# Altium schematic symbol library NOUMANPCBLIB.SchLib: 638 symbols (part 6 of 6)
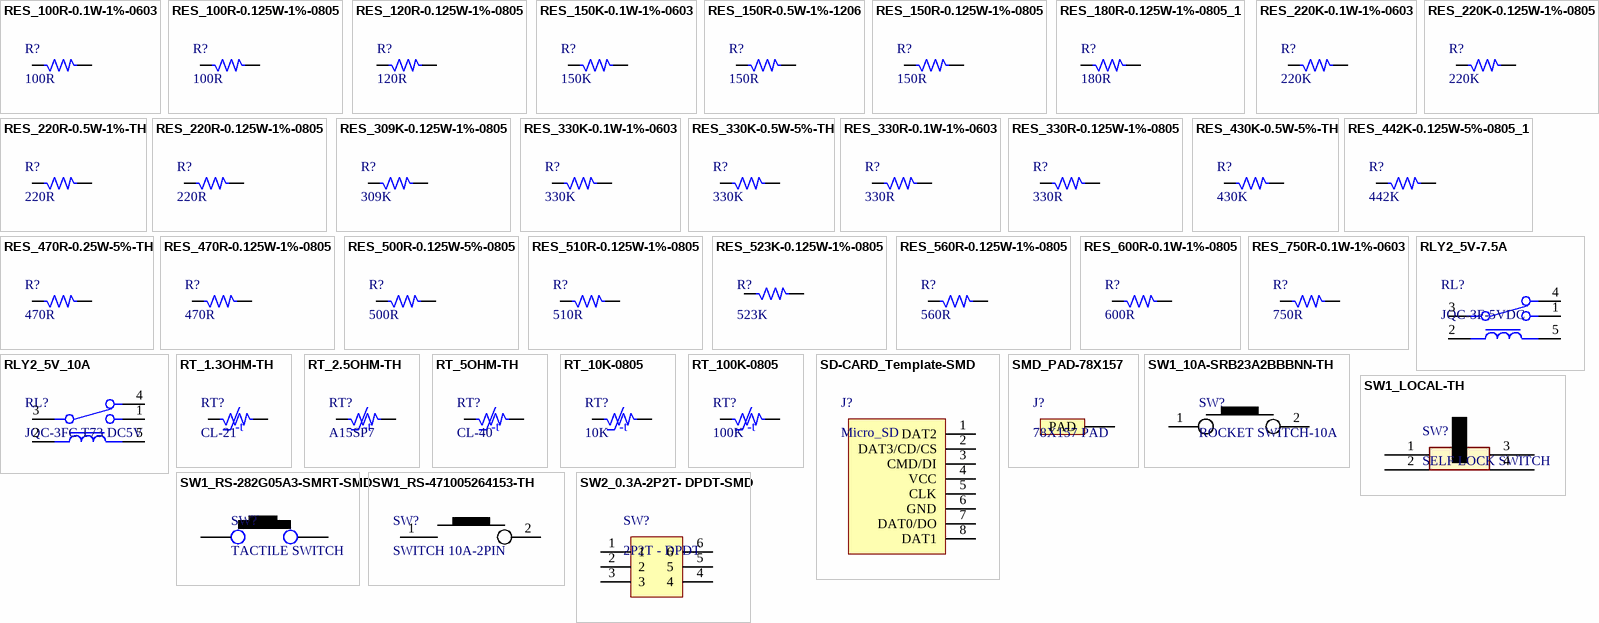
[diagram p23: symbols RES_100R-0.1W-1%-0603 to SW2_0.3A-2P2T- DPDT-SMD]

## RES_442K-0.125W-5%-0805_1
designator R?, comment 442K
442K Ohms ±5% 0.125W, 1/8W Chip Resistor 0805 (2012 Metric) Moisture Resistant Thick Film; Manufacturer: Stackpole Electronics; Manufacturer Part Number: RC0805JR-0730RL; Alternate Part Number-1: NA; Case/Package: 0805; Supplier-1: SIRICOM; Supplier Part Number-1: WR08X30R0FTL
footprint RES_0805
pins: 1, 2

## RES_470R-0.25W-5%-TH
designator R?, comment 470R
470 Ohms ±5% 0.25W, 1/4W Through Hole Resistor Axial Flame Retardant Coating, Safety Carbon Film; Manufacturer: Vishay Dale Thin Film; Manufacturer Part Number: CF14JT470R; Alternate Part Number-1: NA; Case/Package: TH; Supplier-1: SP ROAD; Supplier Part Number-1: CF14JT470R
footprint RES_319_TH
pins: 1, 2

## RES_470R-0.125W-1%-0805
designator R?, comment 470R
470 Ohms ±1% 0.125W, 1/8W Chip Resistor 0805 (2012 Metric) Automotive AEC-Q200 Thick Film; Manufacturer: Walsin; Manufacturer Part Number: WR08X4700FTL; Alternate Part Number-1: NA; Case/Package: 0805; Supplier-1: SIRICOM; Supplier Part Number-1: WR08X4700FTL
footprint RES_0805
pins: 1, 2

## RES_500R-0.125W-5%-0805
designator R?, comment 500R
500 Ohms ±5% 0.125W, 1/8W Chip Resistor 0805 (2012 Metric) Automotive AEC-Q200 Thick Film; Manufacturer: Rohm; Manufacturer Part Number: CRCW0805500RJNTA; Alternate Part Number-1: NA; Case/Package: 0805; Supplier-1: SIRICOM; Supplier Part Number-1: WR08X4990FTL
footprint RES_0805
pins: 1, 2

## RES_510R-0.125W-1%-0805
designator R?, comment 510R
510 Ohms ±1% 0.125W, 1/8W Chip Resistor 0805 (2012 Metric) Thin Film; Manufacturer: Yageo; Manufacturer Part Number: RT0805FRE07510RL; Alternate Part Number-1: NA; Case/Package: 0805; Supplier-1: SIRICOM; Supplier Part Number-1: WR08X5100FTL
footprint RES_0805
pins: 1, 2

## RES_523K-0.125W-1%-0805
designator R?, comment 523K
523 kOhms ±1% 0.125W, 1/8W Chip Resistor 0805 (2012 Metric) Moisture Resistant Thick Film; Manufacturer: Yageo; Manufacturer Part Number: RC0805FR-07523KL; Alternate Part Number-1: NA; Case/Package: 0805; Supplier-1: Arrow; Supplier Part Number-1: RC0805FR-07523KL
footprint RES_0805 (Resister)
pins: 1, 2

## RES_560R-0.125W-1%-0805
designator R?, comment 560R
560 Ohms ±1% 0.125W, 1/8W Chip Resistor 0805 (2012 Metric) Automotive AEC-Q200 Thick Film; Manufacturer: Walsin; Manufacturer Part Number: WR08X5600FTL; Alternate Part Number-1: NA; Case/Package: 0805; Supplier-1: SIRICOM; Supplier Part Number-1: WR08X5600FTL
footprint RES_0805
pins: 1, 2

## RES_600R-0.1W-1%-0805
designator R?, comment 600R
RES 600 OHM 1% 1/5W 0805; Manufacturer Part Number: MCU08050C6000FP500; Manufacturer: Vishay Beyschlag/Draloric/BC Components; Alternate Part Number: NA; Case/Package: 0805; Supplier-1: Digikey; Supplier Part Number: MCU08050C6000FP500-ND - Tape & Reel (TR)
footprint RES_0805 (Resister)
pins: 1, 2

## RES_750R-0.1W-1%-0603
designator R?, comment 750R
750 ±1% 0.1W, 1/10W Chip Resistor 0603 (1608 Metric) Moisture Resistant Thick Film; Manufacturer Part Number: CR0603-FX-7500ELF; Manufacturer: Bourns Inc.; Alternate Part Number: NA; Case/Package: 0603; Supplier-1: Digikey; Supplier Part Number-1: CR0603-FX-7500ELFCT-ND - Cut Tape (CT)
footprint RES_0603 (CASE: 0603)
pins: 1, 2

## RLY2_5V-7.5A
designator RL?, comment JQC-3F-5VDC
5V DC RELAY 2 CHANNEL; Manufacturer: YUEQING HENGWEI ELECTRONICS; Alternate Part Number-1: NA; Manufacturer Part Number: JQC-3F-5VDC; Case/Package: RLY_JQC-3F-5DC; Supplier-1: SP ROAD; Supplier Part Number-1: JQC-3F-5VDC
footprint RLY_JQC_3F_5VDC
pins: 1, 2, 3, 4, 5

## RLY2_5V_10A
designator RL?, comment JQC-3FC T73 DC5V
SPDT relays covers switching capacity of 10A in spite of miniature size for PCB Mount.; Manufacturer: YUEQING HENGWEI ELECTRONICS; Alternate Part Number-1: NA; Manufacturer Part Number: JQC-3FC T73 DC5V; Case/Package: TH; Supplier-1: SP ROAD; Supplier Part Number-1: JQC-3FC T73 DC5V
footprint RLY_JQC_3F_5VDC (CASE: TH)
pins: 1, 2, 3, 4, 5

## RT_1.3OHM-TH
designator RT?, comment CL-21
Inrush Current Limiter 1.3 Ohms ±25% 8A 0.550" (13.97mm); Manufacturer: Amphenol; Alternate Part Number-1: NA; Manufacturer Part Number: CL-21; Case/Package: Radial-TH; Supplier-1: MOUSER; Supplier Part Number-1: CL-21
footprint RES_334_157X287_RAD_TH (CASE: TH)
pins: 1, 2
text: -t

## RT_2.5OHM-TH
designator RT?, comment A15SP7
NTC PTC A15SP 2.5R 2.5 European diameter 15mm negative temperature thermistor; Manufacturer: Rundahang Electronics; Alternate Part Number-1: NA; Manufacturer Part Number: A15SP7; Case/Package: Radial TH; Supplier-1: SP ROAD; Supplier Part Number-1: A15SP7
footprint A15SP7_295_98X118_TH (NTC)
pins: 1, 2
text: -t

## RT_5OHM-TH
designator RT?, comment CL-40
Inrush Current Limiter 5 Ohms ±25% 6A 0.770" (19.56mm); Manufacturer: Amphenol; Alternate Part Number-1: NA; Manufacturer Part Number: CL-40; Case/Package: Radial-TH; Supplier-1: ARROW; Supplier Part Number-1: CL-40
footprint CL-40_347_118X1557_TH (NTC)
pins: 1, 2
text: -t

## RT_10K-0805
designator RT?, comment 10K
NTC Thermistor 10k 0805 (2012 Metric); Manufacturer: Vishay BCcomponents; Manufacturer Part Number: NCP21XV103J03RA; Alternate Part Number-1: NA; Case/Package: 0805; Supplier-1: ARROW; Supplier Part Number-1: NCP21XV103J03RA
footprint RES_0805
pins: 1, 2
text: -t

## RT_100K-0805
designator RT?, comment 100K
NTC Thermistor 100k 0805 (2012 Metric); Manufacturer: Murata; Manufacturer Part Number: NTCS0805E3104JMT; Alternate Part Number-1: NA; Case/Package: 0805; Supplier-1: ARROW; Supplier Part Number-1: NTCS0805E3104JMT
footprint RES_0805
pins: 1, 2
text: -t

## SD-CARD_Template-SMD
designator J?, comment Micro_SD
SD-CARD TEMPLATE; Manufacturer: NA; Manufacturer Part Number: NA; Case/Package: SMD; Supplier-1: NA; Supplier Part Number-1: NA; Alternate Part Number-1: NA
footprint SD-CARD_Template_SMD (SD-CARD TEMPLATE)
pins: 1 DAT2, 2 DAT3/CD/CS, 3 CMD/DI, 4 VCC, 5 CLK, 6 GND, 7 DAT0/DO, 8 DAT1

## SMD_PAD-78X157
designator J?, comment 78X157 PAD
SMD Pad of 2mm x 4mm 1 pin; Manufacturer: NA; Manufacturer Part Number: NA; Case/Package: SMD; Supplier-1: NA; Supplier Part Number-1: NA; Alternate Part Number-1: NA
footprint SMD-PAD_78X157 (SMD PAD)
pins: 1 PAD

## SW1_10A-SRB23A2BBBNN-TH
designator SW?, comment ROCKET SWITCH-10A
Rocker Switch SPDT 10A (AC) 125V Panel Mount, Snap-In; Manufacturer: ITT C&K; Manufacturer Part Number: SRB23A2BBBNN; Alternate Part Number-1: NA; Case/Package: TH; Supplier-1: SP ROAD; Supplier Part Number-1: SRB23A2BBBNN
footprint SW_2ARS_TH
pins: 1, 2

## SW1_LOCAL-TH
designator SW?, comment SELF LOCK SWITCH
6 Pin DPDT Mini Push Button Self-locking Switch Multimeter Switch; Manufacturer Part Number: NA; Case/Package: TH; Manufacturer: NA; Supplier-1: SP ROAD; Supplier Part Number-1: NA; Alternate Part Number-1: NA
footprint SW_70_31.5D47_TH_ST
pins: 1, 2, 3, 4

## SW1_RS-282G05A3-SMRT-SMD
designator SW?, comment TACTILE SWITCH
Tactile Switch SPST-NO Top Actuated Surface Mount; Manufacturer: ITT C&K; Manufacturer Part Number: RS-282G05A3-SMRT; Alternate Part Number-1: NA; Case/Package: SMD; Supplier-1: SP ROAD; Supplier Part Number-1: RS-282G05A3-SMRT
footprint SW_342_SMD
pins: 1, 2

## SW1_RS-471005264153-TH
designator SW?, comment SWITCH 10A-2PIN
Rocker Switch SPST 16A (AC), 10A (DC) 250V Panel Mount, Snap-In; Manufacturer: Würth Elektronik; Manufacturer Part Number: 471005264153; Alternate Part Number-1: NA; Case/Package: TH; Supplier-1: Würth Elektronik; Supplier Part Number-1: 471005264153
footprint SW_2ARS_TH
pins: 1, 2

## SW2_0.3A-2P2T- DPDT-SMD
designator SW?, comment 2P2T - DPDT
PCB Mountable Slide Switch. Double Pole, Double Throw = DPDT; Manufacturer: NA; Manufacturer Part Number: NA; Supplier-1: Sunrom; Supplier Part Number-1: 5261; Case/Package: SMD; Alternate Part Number-1: NA
footprint SW_2P2T-DPDT_SMD (PCB Mountable Slide Switch. Double Pole, Double Throw = DPDT)
signal-integrity model Model Name (Model Description)
signal-integrity model Model Name (Model Description)
simulation model Model Name (Model Description)
ibis Model Name (Model Description)
signal-integrity model Model Name (Model Description)
pins: 1, 2, 3, 4, 5, 6

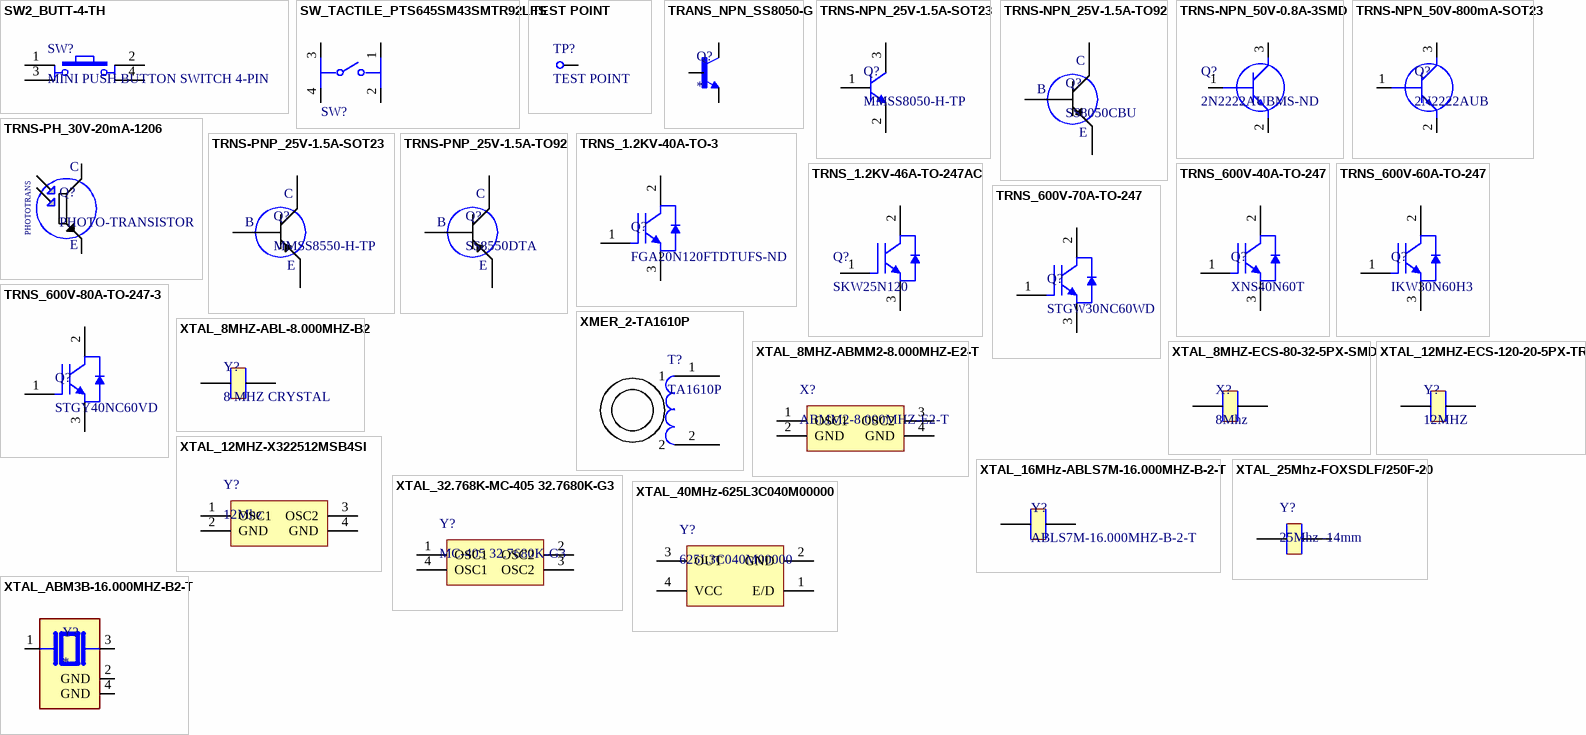
[diagram p18: symbols SW2_BUTT-4-TH to XTAL_ABM3B-16.000MHZ-B2-T]

## SW2_BUTT-4-TH
designator SW?, comment MINI PUSH BUTTON SWITCH 4-PIN
Tactile Switches MINI PUSH BUTTON SWITCH 4-PIN QTY. 4; Manufacturer: Gravitech; Manufacturer Part Number: BUTT-4; Alternate Part Number-1: NA; Case/Package: TH; Supplier-1: SP ROAD; Supplier Part Number-1: BUTT-4
footprint SW_70_31.5D47_TH_ST
pins: 1, 2, 3, 4

## SW_TACTILE_PTS645SM43SMTR92LFS
designator SW?  (value not drawn)
footprint C&K_0_MFG - duplicate
pins: 1, 2, 3, 4

## TEST POINT
designator TP?
0.4mm hole size Test point; Manufacturer Part Number: NA; Case/Package: TH; Manufacturer: NA; Supplier-1: NA; Supplier Part Number-1: NA; Alternate Part Number-1: NA
footprint TEST POINT_30
footprint TEST POINT_78
footprint TEST POINT_15.7 (0.4mm Test Point)
pins: 1

## TRANS_NPN_SS8050-G
designator Q?
Bipolar (BJT) Transistor NPN 25 V 1.5 A 100MHz 300 mW Surface Mount SOT-23-3
footprint TRANS_NPN_SS8050-G
pins: 1 B, 2 E, 3 C

## TRNS-NPN_25V-1.5A-SOT23
designator Q?, comment MMSS8050-H-TP
Bipolar (BJT) Transistor NPN 25V 1.5A 100MHz 625mW Surface Mount SOT-23; Manufacturer: MCC; Alternate Part Number-1: NA; Manufacturer Part Number: MMSS8050-H-TP; Case/Package: SOT-23; Supplier-1: MOUSER; Supplier Part Number-1: MMSS8050-H-TP
footprint SOT 23-3 (Case: SOT23)
pins: 1 B, 2 E, 3 C

## TRNS-NPN_25V-1.5A-TO92
designator Q?, comment SS8050CBU
Bipolar (BJT) Transistor NPN 25V 1.5A 100MHz 1W Through Hole TO-92-3; Manufacturer: ON Semiconductor / Fairchild; Alternate Part Number-1: NA; Manufacturer Part Number: SS8050CBU; Case/Package: TO-92; Supplier-1: ARROW; Supplier Part Number-1: SS8050CBU
footprint TO-92_102_31D47_TH
pins: 1, 2, 3
text: C; B; E

## TRNS-NPN_50V-0.8A-3SMD
designator Q?, comment 2N2222AUBMS-ND
Bipolar (BJT) Transistor NPN 50V 800mA 500mW Surface Mount 3-SMD; Manufacturer: Microsemi; Alternate Part Number-1: NA; Manufacturer Part Number: 2N2222AUB; Case/Package: SOT23-3; Supplier-1: MOUSER; Supplier Part Number-1: 2N2222AUB
footprint SOT 23-3 (Case: SOT23)
pins: 1 B, 2 E, 3 C

## TRNS-NPN_50V-800mA-SOT23
designator Q?, comment 2N2222AUB
Bipolar (BJT) Transistor NPN 50V 800mA 300mW Surface Mount 4-CLCC (3.05x2.415); Manufacturer: Microsemi; Alternate Part Number-1: NA; Manufacturer Part Number: 2N2222AUB; Case/Package: SOT23-3; Supplier-1: Arrow; Supplier Part Number-1: 2N2222AUB
footprint SOT 23-3 (Case: SOT23)
pins: 1 B, 2 E, 3 C

## TRNS-PH_30V-20mA-1206
designator Q?, comment PHOTO-TRANSISTOR
Phototransistor 940nm Top View 1206 (3216 Metric); Manufacturer: Wurth Electronics; Manufacturer Part Number: 1541201NEA400; Alternate Part Number-1: NA; Case/Package: 1206; Supplier-1: MOUSER; Supplier Part Number-1: 1541201NEA400
footprint RES_1206
pins: 1, 2
text: C; PHOTOTRANS; E

## TRNS-PNP_25V-1.5A-SOT23
designator Q?, comment MMSS8550-H-TP
Bipolar (BJT) Transistor PNP 25V 1.5A 100MHz 625mW Surface Mount SOT-23; Manufacturer: MCC; Alternate Part Number-1: NA; Manufacturer Part Number: MMSS8550-H-TP; Case/Package: SOT-23; Supplier-1: ARROW; Supplier Part Number-1: MMSS8550-H-TP
footprint SOT 23-3
pins: 1, 2, 3
text: C; B; E

## TRNS-PNP_25V-1.5A-TO92
designator Q?, comment SS8550DTA
Bipolar (BJT) Transistor PNP 25V 1.5A 200MHz 1W Through Hole TO-92-3; Manufacturer: ON Semiconductor / Fairchild; Alternate Part Number-1: NA; Manufacturer Part Number: SS8550DTA; Case/Package: TO-92-3; Supplier-1: ARROW; Supplier Part Number-1: SS8550DTA
footprint TO-92_102_31D47_TH
pins: 1, 2, 3
text: C; B; E

## TRNS_1.2KV-40A-TO-3
designator Q?, comment FGA20N120FTDTUFS-ND
IGBT Trench Field Stop 1200V 40A 298W Through Hole TO-3P; Manufacturer: ON Semiconductor / Fairchild; Alternate Part Number-1: NA; Manufacturer Part Number: FGA20N120FTDTU; Case/Package: TO-247-3; Supplier-1: ARROW; Supplier Part Number-1: FGA20N120FTDTU
footprint TO-3-PN_216-95D95_TH
pins: 1 G, 2 C, 3 E

## TRNS_1.2KV-46A-TO-247AC
designator Q?, comment SKW25N120
IGBT NPT 1200V 46A 313W Through Hole PG-TO247-3; Manufacturer: Infineon; Alternate Part Number-1: NA; Manufacturer Part Number: SKW25N120; Case/Package: TO-247-3; Supplier-1: ARROW; Supplier Part Number-1: SKW25N120
footprint TO-247_216_55D137_TH_BENT_HEATSINK
pins: 1 G, 2 C, 3 E

## TRNS_600V-40A-TO-247
designator Q?, comment XNS40N60T
IGBTs Field Stop 600V 40A TO-247 RoHS; Manufacturer: XINER; Alternate Part Number-1: NA; Manufacturer Part Number: XNS40N60T; Case/Package: TO-247; Supplier-1: LCSC; Supplier Part Number-1: C379747
footprint TO-247_216_55D137_TH_BENT_HEATSINK
pins: 1 G, 2 C, 3 E

## TRNS_600V-60A-TO-247
designator Q?, comment IKW30N60H3
IGBT Trench Field Stop 600V 60A 187W Through Hole PG-TO247-3; Manufacturer: Infineon; Manufacturer Part Number: IKW30N60H3FKSA1; Alternate Part Number-1: NA; Case/Package: TO-247; Supplier-1: ARROW; Supplier Part Number-1: IKW30N60H3FKSA1
footprint TO-247_216_55D137_TH_BENT_HEATSINK
pins: 1 G, 2 C, 3 E

## TRNS_600V-70A-TO-247
designator Q?, comment STGW30NC60WD
IGBT 600V 70A 250W Through Hole TO-247-3; Manufacturer: STMicroelectronics; Manufacturer Part Number: STGW45HF60WD; Alternate Part Number-1: NA; Case/Package: TO-247; Supplier-1: RS COMP; Supplier Part Number-1: STGW45HF60WD
footprint TO-247_216_55D137_TH_BENT_HEATSINK
pins: 1 G, 2 C, 3 E

## TRNS_600V-80A-TO-247-3
designator Q?, comment STGY40NC60VD
IGBT 600V 80A 260W Through Hole MAX247™; Manufacturer: STMicroelectronics; Alternate Part Number-1: NA; Manufacturer Part Number: STGY40NC60VD; Case/Package: TO-247-3; Supplier-1: MOUSER; Supplier Part Number-1: STGY40NC60VD
footprint TO-247_216_55D137_TH_BENT_HEATSINK
footprint TO-247_216_55D137_TH_NH
footprint TO-247_216_55D137_TH_BENT (IGBT)
pins: 1 G, 2 C, 3 E

## XMER_2-TA1610P
designator T?, comment TA1610P
Current sense Transformer; Manufacturer: Coilcraft; Alternate Part Number-1: NA; Manufacturer Part Number: TA1610P; Case/Package: TH; Supplier-1: Aliexpress; Supplier Part Number-1: TA1610P
footprint XMER_TA1610P_TH
pins: 1, 2

## XTAL_8MHZ-ABL-8.000MHZ-B2
designator Y?, comment 8 MHZ CRYSTAL
8MHz ±20ppm Crystal 18pF 80 Ohms HC-49/US; Manufacturer: Yangxing Tech; Manufacturer Part Number: ABL-8.000MHZ-B2; Alternate Part Number-1: NA; Case/Package: TH; Supplier-1: SP ROAD; Supplier Part Number-1: ABL-8.000MHZ-B2
footprint XTAL_193_184X455_TH
pins: 1, 2

## XTAL_8MHZ-ABMM2-8.000MHZ-E2-T
designator X?, comment ABMM2-8.000MHZ-E2-T
8MHz ±20ppm Crystal 18pF 72 Ohms 4-SMD, No Lead; Manufacturer: Abracon; Alternate Part Number-1: NA; Manufacturer Part Number: ABMM2-8.000MHZ-E2-T; Case/Package: SMD/SMT; Supplier-1: TANOTIS; Supplier Part Number-1: ABMM2-8.000MHZ-E2-T
footprint ABMM2_94.4_267_71X55_SMD (XTAL)
pins: 1 OSC1, 2 GND, 3 OSC2, 4 GND

## XTAL_8MHZ-ECS-80-32-5PX-SMD
designator X?, comment 8Mhz
8MHz ±30ppm Crystal 32pF 60 Ohms HC-49/US; Manufacturer: Fox Electronics; Manufacturer Part Number: ECS-80-32-5PX-TR; Alternate Part Number-1: NA; Case/Package: SMD/SMT; Supplier-1: SP ROAD; Supplier Part Number-1: ECS-80-32-5PX-TR
footprint XTAL_314_240X47_SMD (CASE: TH)
pins: 1, 2

## XTAL_12MHZ-ECS-120-20-5PX-TR
designator Y?, comment 12MHZ
12MHz ±30ppm Crystal 20pF 50 Ohms HC-49/US; Manufacturer: ECS International; Manufacturer Part Number: ECS-120-20-5PX-TR; Alternate Part Number-1: NA; Case/Package: SMD/SMT; Supplier-1: ARROW; Supplier Part Number-1: ECS-120-20-5PX-TR
footprint XTAL_314_240X47_SMD (CASE: TH)
pins: 1, 2

## XTAL_12MHZ-X322512MSB4SI
designator Y?, comment 12Mhz
12MHz ±10ppm 20pF 80Ω SMD-3225_4P SMD Crystal Resonators RoHS; Manufacturer Part Number: X322512MSB4SI; Manufacturer: CTS; Alternate Part Number-1: NA; Case/Package: SMD; Supplier-1: ARROW; Supplier Part Number-1: X322512MSB4SI
footprint 3225_4P_67_157_55x47_SMD (XTAL)
pins: 1 OSC1, 2 GND, 3 OSC2, 4 GND

## XTAL_16MHz-ABLS7M-16.000MHZ-B-2-T
designator Y?, comment ABLS7M-16.000MHZ-B-2-T
16MHz ±20ppm Crystal 18pF 60 Ohms 2-SMD, Flat Lead; Manufacturer: Abracon; Alternate Part Number-1: NA; Manufacturer Part Number: ABLS7M-16.000MHZ-B-2-T; Case/Package: SMD; Supplier-1: ARROW; Supplier Part Number-1: ABLS7M-16.000MHZ-B-2-T
footprint XTAL_314_240X47_SMD
pins: 1, 2

## XTAL_25Mhz-FOXSDLF/250F-20
designator Y?, comment 25Mhz -14mm
25MHz ±30ppm Crystal 20pF 30 Ohms HC-49/US; Manufacturer: Abracon; Manufacturer Part Number: FOXSDLF/250F-20; Alternate Part Number-1: NA; Case/Package: SMD; Supplier-1: MOUSER; Supplier Part Number-1: FOXSDLF/250F-20
footprint XTAL_314_240X47_SMD
pins: 1, 2

## XTAL_32.768K-MC-405 32.7680K-G3
designator Y?, comment MC-405 32.7680K-G3
32.768kHz ±100ppm Crystal 20pF 50 kOhms 4-SOJ, 5.50mm pitch; Manufacturer: EPSON; Alternate Part Number-1: MC-405 32.7680K-AC0: ROHS; Manufacturer Part Number: MC-405 32.7680K-G3; Case/Package: 4-SOJ; Supplier-1: Mouser; Supplier Part Number-1: 732-MC405327680KG3RS
footprint XTAL_125_74X51_SMD
pins: 1 OSC1, 2 OSC2, 3 OSC2, 4 OSC1

## XTAL_40MHz-625L3C040M00000
designator Y?, comment 625L3C040M00000
40MHz XO (Standard) CMOS Oscillator 3.3V Enable/Disable 4-SMD, No Lead; Manufacturer: ECS International; Alternate Part Number-1: NA; Manufacturer Part Number: 625L3C040M00000; Case/Package: SMD/SMT; Supplier-1: MOUSER; Supplier Part Number-1: 625L3C040M00000
footprint XTAL_63_39X47_SMD (SMD CRYSTAL)
pins: 1 E/D, 2 GND, 3 OUT, 4 VCC

## XTAL_ABM3B-16.000MHZ-B2-T
designator Y?
16 MHz Â±20ppm Crystal 18pF 50 Ohms 4-SMD, No Lead; MP: ABM3B-16.000MHZ-B2-T; MF: Abracon; Package: SMD-4 Abracon LLC; Availability: In Stock; Price: None; Purchase-URL: https://pricing.snapeda.com/search/part/ABM3B-16.000MHZ-B2-T/?ref=eda; SnapEDA_Link: https://www.snapeda.com/parts/ABM3B-16.000MHZ-B2-T/Abracon+LLC/view-part/?ref=snap; Check_prices: https://www.snapeda.com/parts/ABM3B-16.000MHZ-B2-T/Abracon+LLC/view-part/?ref=eda; Value: *
footprint XTAL_ABM3B-16.000MHZ-B2-T
pins: 1, 2 GND (power), 3 2, 4 GND (power)